# Altium footprint library rcl.PCBLIB: 487 footprints (part 15 of 31)
Each footprint in its own frame and in the unit in brackets; x right, y up, seen from the top. Pads: shape width x height; smd on the part's side, far side on the other; paste and mask are expansions set on the pad; w line width, h text height; cw(c..) or ccw(c..) is an arc to the next point about the centre after c.
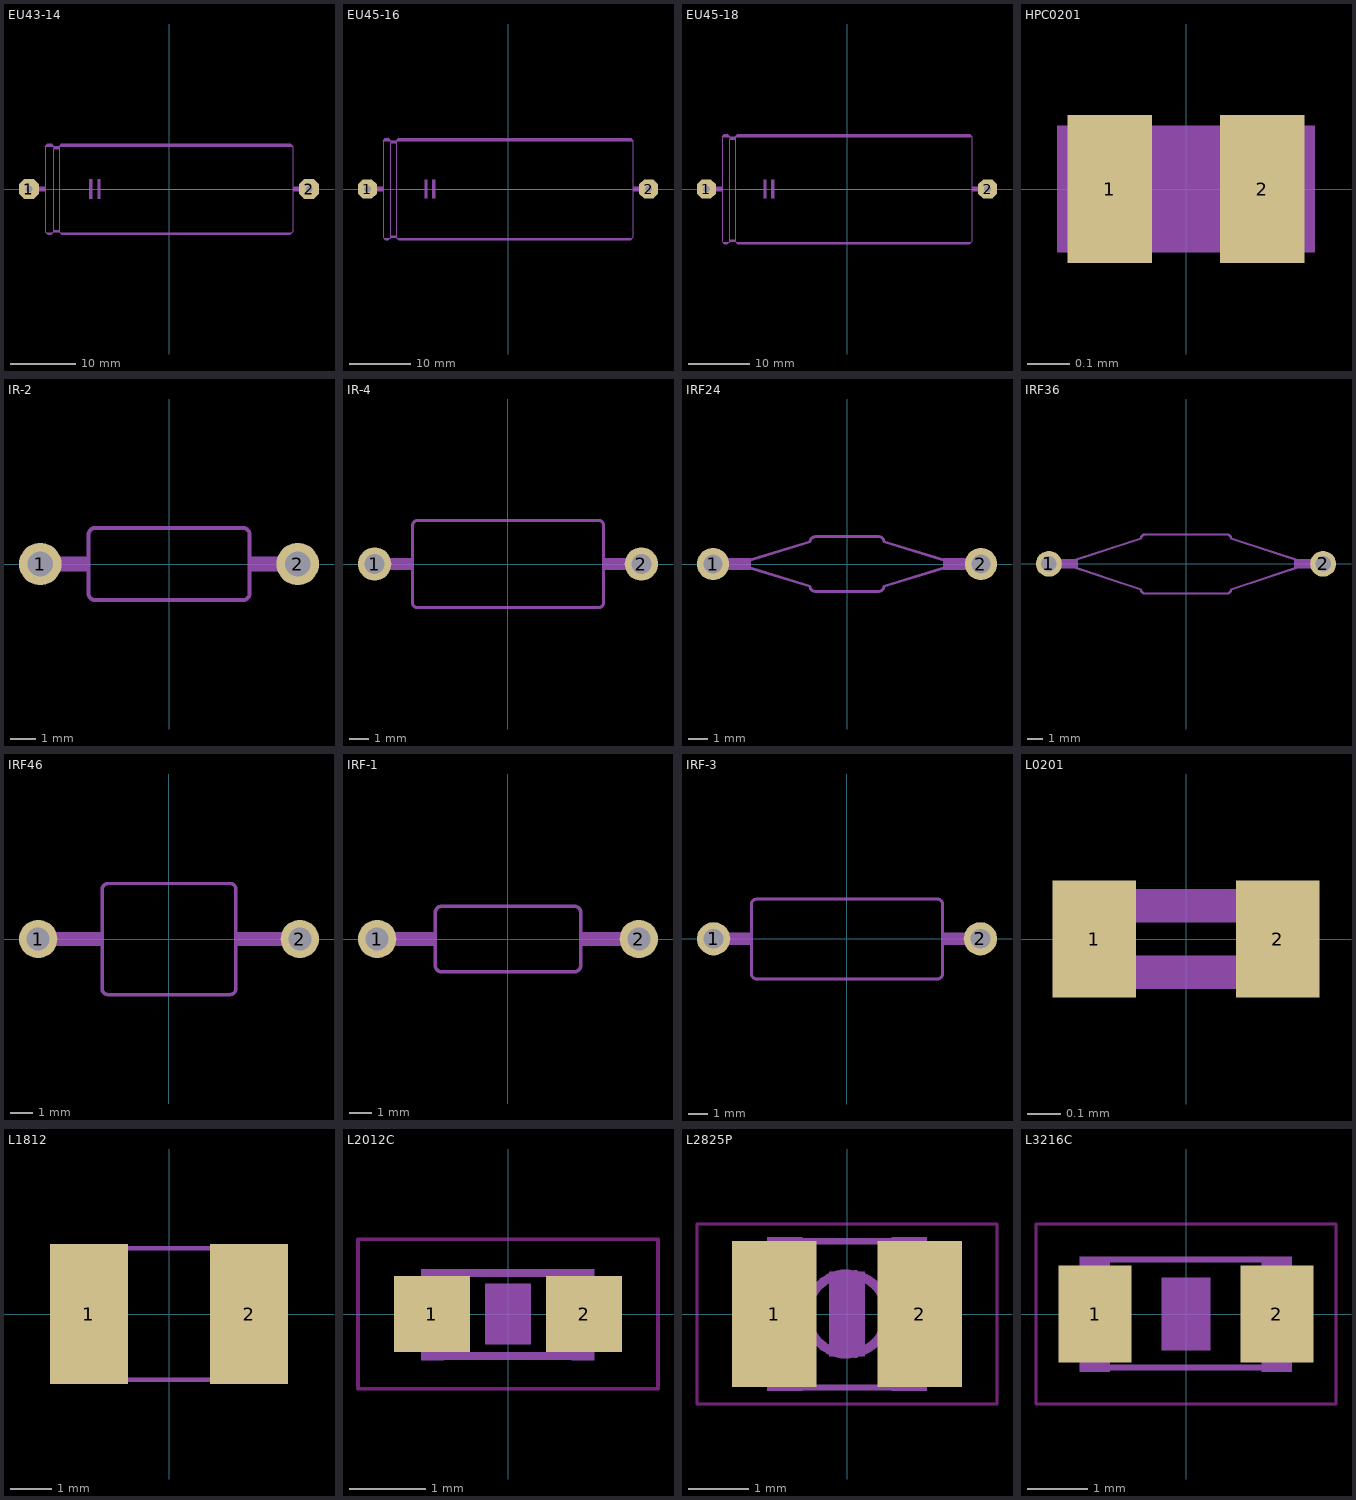
[diagram p14: the footprints below, top view; thin cyan lines are the x and y axes]

## EU43-14 [mil]
pads (2):
  oct 120.06x120.06 hole 44: 1(-850,0) 2(850,0)
Mechanical 2:
  rectangle: -435,-60 -415,60
  rectangle: -485,-60 -465,60
  rectangle: 750,-15 785,15
  rectangle: -785,-15 -750,15
  lines w6: -645,0 -475,0 ; -420,0 730,0 ; -750,260 -750,-260 -745,-265 ; -750,260 -735,275 -715,275 -700,260 ; -750,260 -700,260 ; -745,-265 -705,-265 ; -745,-265 -735,-275 -715,-275 -705,-265 ; -705,-265 -700,-260 ; -700,-260 -700,-250 ; -700,-260 -665,-260 ; -700,-250 -665,-250 ; -700,-250 -700,245 ; -700,245 -700,260 ; -700,245 -665,245 ; -700,260 -665,260 ; -665,-260 -660,-265 ; -665,-260 -665,-250 ; -665,-250 -665,245 ; -665,245 -665,260 ; -665,260 -650,275 735,275 750,260 ; -665,260 750,260 ; -660,-265 -650,-275 735,-275 745,-265 ; -660,-265 745,-265 ; 745,-265 750,-260 750,260
  lines w10: -735,-270 -715,-270 ; -695,-255 -670,-255 ; -650,-270 735,-270
  lines w12: -740,265 -710,265 ; -735,270 -715,270 ; -695,250 -670,250 ; -695,255 -670,255 ; -655,265 740,265 ; -650,270 735,270
Mechanical 18:
  lines w30: -850,0 -785,0 ; 785,0 850,0

## EU45-16 [mil]
pads (2):
  oct 120.06x120.06 hole 44: 1(-900,0) 2(900,0)
Mechanical 2:
  rectangle: -485,-60 -465,60
  rectangle: -535,-60 -515,60
  rectangle: 800,-15 835,15
  rectangle: -835,-15 -800,15
  lines w6: -695,0 -525,0 ; -470,0 780,0 ; -800,310 -800,-310 -795,-315 ; -800,310 -785,325 -765,325 -750,310 ; -800,310 -750,310 ; -795,-315 -755,-315 ; -795,-315 -785,-325 -765,-325 -755,-315 ; -755,-315 -750,-310 ; -750,-310 -750,-300 ; -750,-310 -715,-310 ; -750,-300 -715,-300 ; -750,-300 -750,295 ; -750,295 -750,310 ; -750,295 -715,295 ; -750,310 -715,310 ; -715,-310 -710,-315 ; -715,-310 -715,-300 ; -715,-300 -715,295 ; -715,295 -715,310 ; -715,310 -700,325 785,325 800,310 ; -715,310 800,310 ; -710,-315 -700,-325 785,-325 795,-315 ; -710,-315 795,-315 ; 795,-315 800,-310 800,310
  lines w10: -785,-320 -765,-320 ; -745,-305 -720,-305 ; -700,-320 785,-320
  lines w12: -790,315 -760,315 ; -785,320 -765,320 ; -745,300 -720,300 ; -745,305 -720,305 ; -705,315 790,315 ; -700,320 785,320
Mechanical 18:
  lines w30: -900,0 -835,0 ; 835,0 900,0

## EU45-18 [mil]
pads (2):
  oct 120.06x120.06 hole 44: 1(-900,0) 2(900,0)
Mechanical 2:
  rectangle: -485,-60 -465,60
  rectangle: -535,-60 -515,60
  rectangle: 800,-15 835,15
  rectangle: -835,-15 -800,15
  lines w6: -695,0 -525,0 ; -470,0 780,0 ; -800,335 -800,-335 -795,-340 ; -800,335 -785,350 -765,350 -750,335 ; -800,335 -750,335 ; -795,-340 -755,-340 ; -795,-340 -785,-350 -765,-350 -755,-340 ; -755,-340 -750,-335 ; -750,-335 -750,-325 ; -750,-335 -715,-335 ; -750,-325 -715,-325 ; -750,-325 -750,320 ; -750,320 -750,335 ; -750,320 -715,320 ; -750,335 -715,335 ; -715,-335 -710,-340 ; -715,-335 -715,-325 ; -715,-325 -715,320 ; -715,320 -715,335 ; -715,335 -700,350 785,350 800,335 ; -715,335 800,335 ; -710,-340 -700,-350 785,-350 795,-340 ; -710,-340 795,-340 ; 795,-340 800,-335 800,335
  lines w10: -785,-345 -765,-345 ; -745,-330 -720,-330 ; -700,-345 785,-345
  lines w12: -790,340 -760,340 ; -785,345 -765,345 ; -745,325 -720,325 ; -745,330 -720,330 ; -705,340 790,340 ; -700,345 785,345
Mechanical 18:
  lines w30: -900,0 -835,0 ; 835,0 900,0

## HPC0201 [mm]
pads (2):
  rect 0.2x0.35 smd: 1(-0.18,0) 2(0.18,0)
Mechanical 18:
  rectangle: -0.305,-0.15 0.305,0.15

## IR-2 [mil]
pads (2):
  round 66 hole 39.37: 1(-200,0) 2(200,0)
Mechanical 2:
  rectangle: 125,-12 159,12
  rectangle: -159,-12 -125,12
  lines w6: -125,-45.83 ccw(c-114.94,-46.05) -115.16,-56.1 115.16,-56.1 ccw(c114.94,-46.05) 125,-45.83 125,45.83 ccw(c114.94,46.05) 115.16,56.1 -114.17,56.1 ccw(c-114.45,45.55) -125,45.83 -125,-45.83
Mechanical 18:
  lines w24: -200,0 -160,0 ; 160,0 200,0

## IR-4 [mil]
pads (2):
  round 66 hole 39.37: 1(-263.98,0) 2(264.96,0)
Mechanical 2:
  rectangle: 189.96,-12 223.96,12
  rectangle: -222.98,-12 -188.98,12
  lines w6: -188.98,-76.34 ccw(c-178.92,-76.55) -179.13,-86.61 180.12,-86.61 ccw(c179.91,-76.56) 189.96,-76.34 189.96,76.34 ccw(c179.91,76.56) 180.12,86.61 -178.15,86.61 ccw(c-178.43,76.06) -188.98,76.34 -188.98,-76.34
Mechanical 18:
  lines w24: -263.98,0 -223.98,0 ; 224.96,0 264.96,0

## IRF24 [mil]
pads (2):
  round 66 hole 39.37: 1(-275,0) 2(275,0)
Mechanical 2:
  rectangle: 196.85,-12 229.33,12
  rectangle: -230.32,-12 -196.85,12
  lines w6: -225.39,0 -75.79,-45.83 ccw(c-65.73,-46.04) -65.94,-56.1 65.94,-56.1 ccw(c65.73,-46.04) 75.79,-45.83 225.39,0 75.79,45.83 ccw(c65.73,46.04) 65.94,56.1 -64.96,56.1 ccw(c-65.24,45.55) -75.79,45.83 -225.39,0
Mechanical 18:
  lines w24: -275,0 -232.87,0 ; 229.33,0 275,0

## IRF36 [mil]
pads (2):
  round 66 hole 39.37: 1(-350,0) 2(350,0)
Mechanical 2:
  rectangle: 275.59,-12 316.93,12
  rectangle: -316.93,-12 -275.59,12
  lines w6: -312.99,0 -115.16,-65.51 ccw(c-105.1,-65.73) -105.32,-75.79 105.32,-75.79 ccw(c105.1,-65.73) 115.16,-65.51 312.99,0 115.16,64.53 ccw(c105.11,64.75) 105.32,74.8 -104.33,74.8 ccw(c-104.61,64.25) -115.16,64.53 -312.99,0
Mechanical 18:
  lines w24: -350,0 -311.61,0 ; 308.07,0 350,0

## IRF46 [mil]
pads (2):
  round 66 hole 39.37: 1(-225,0) 2(225,0)
Mechanical 2:
  rectangle: 115.16,-12 192.91,12
  rectangle: -193.9,-12 -115.16,12
  lines w6: -115.16,-85.2 ccw(c-105.11,-85.42) -105.32,-95.47 105.32,-95.47 ccw(c105.11,-85.42) 115.16,-85.2 115.16,85.2 ccw(c105.11,85.42) 105.32,95.47 -104.33,95.47 ccw(c-104.61,84.92) -115.16,85.2 -115.16,-85.2
Mechanical 18:
  lines w24: -225,0 -175,0 ; 175,0 225,0

## IRF-1 [mil]
pads (2):
  round 66 hole 39.37: 1(-225,0) 2(225,0)
Mechanical 2:
  rectangle: 125,-12 165.35,12
  rectangle: -165.35,-12 -125,12
  lines w6: -125,-45.83 ccw(c-114.94,-46.05) -115.16,-56.1 115.16,-56.1 ccw(c114.94,-46.05) 125,-45.83 125,45.83 ccw(c114.94,46.05) 115.16,56.1 -114.17,56.1 ccw(c-114.45,45.55) -125,45.83 -125,-45.83
Mechanical 18:
  lines w24: -225,0 -160,0 ; 160,0 225,0

## IRF-3 [mil]
pads (2):
  round 66 hole 39.37: 1(-263.98,0) 2(264.96,0)
Mechanical 2:
  rectangle: 189.96,-12 204.72,12
  rectangle: -204.72,-12 -188.98,12
  lines w6: -188.98,-69.45 ccw(c-178.92,-69.66) -179.13,-79.72 180.12,-79.72 ccw(c179.91,-69.67) 189.96,-69.45 189.96,68.46 ccw(c179.9,68.68) 180.12,78.74 -178.15,78.74 ccw(c-178.43,68.19) -188.98,68.46 -188.98,-69.45
Mechanical 18:
  lines w24: -263.98,0 -205.71,0 ; 204.72,0 264.96,0

## L0201 [mm]
pads (2):
  rect 0.25x0.35 smd: 1(-0.275,0) 2(0.275,0)
Mechanical 18:
  rectangle: -0.3,-0.15 -0.15,0.15
  rectangle: 0.15,-0.15 0.3,0.15
  rectangle: -0.15,0.05 0.15,0.15
  rectangle: -0.15,-0.15 0.15,-0.05

## L1812 [mil]
pads (2):
  rect 74.8x133.86 smd: 1(-76.77,0) 2(76.77,0)
Mechanical 18:
  rectangle: -94,-65 -56.6,64.92
  rectangle: 57,-65 94.4,64.92
  lines w4: -58,63 58,63 ; -57,-63 58,-63

## L2012C [mm]
pads (2):
  rect 1x1 smd: 1(-1,0) 2(1,0)
Keep-Out Layer:
  lines w0.051: -1.973,-0.983 1.973,-0.983 1.973,0.983 -1.973,0.983 -1.973,-0.983
Mechanical 8:
  rectangle: -0.3,-0.4 0.3,0.4
Mechanical 18:
  rectangle: -1.143,-0.61 -0.843,0.59
  rectangle: 0.838,-0.61 1.138,0.59
  lines w0.102: -0.864,-0.553 0.864,-0.553 ; -0.864,0.54 0.864,0.54

## L2825P [mil]
pads (2):
  rect 55.12x94.49 smd: 1(-47.24,0) 2(47.24,0)
Keep-Out Layer:
  lines w2: -97.36,-58.39 97.36,-58.39 97.36,58.39 -97.36,58.39 -97.36,-58.39
Mechanical 8:
  rectangle: -11.81,-27.56 11.81,27.56
Mechanical 18:
  circle w6: c0,0 r26
  rectangle: 29,-50 52,50
  rectangle: -52,-50 -29,50
  lines w4: -52.76,-37.99 -52.76,37.99 ; -30,-47.76 30,-47.76 ; -30,47.24 30,47.24 ; 52.76,-37.99 52.76,37.99

## L3216C [mil]
pads (2):
  rect 47.24x62.99 smd: 1(-59.06,0) 2(59.06,0)
Keep-Out Layer:
  lines w2: -97.36,-58.39 97.36,-58.39 97.36,58.39 -97.36,58.39 -97.36,-58.39
Mechanical 8:
  rectangle: -15.75,-23.62 15.75,23.62
Mechanical 18:
  rectangle: -69,-37.5 -49.31,37.3
  rectangle: 49,-37.5 68.69,37.3
  lines w4: -50,-34.76 50,-34.76 ; -50,35.28 50,35.28